# EAGLE library part PIN-HEADER-6PIN (library stutz-eagle)
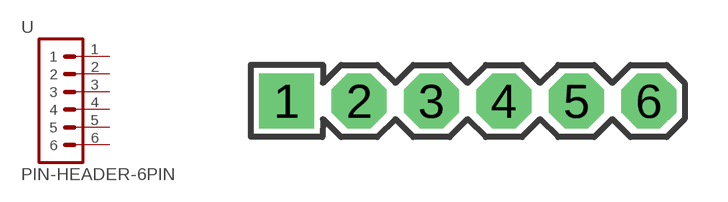
[diagram p5: symbol with the pads of PIN-HEADER-6PIN; footprint PIN-HEADER-6PIN]

Designator prefix -

## PIN-HEADER-6PIN  [PIN-HEADER-6PIN]
1  1  pas
2  2  pas
3  3  pas
4  4  pas
5  5  pas
6  6  pas

## Footprint PIN-HEADER-6PIN (pad centres in mm)
drill 1.016 pad 1.93 square: 1 -5.08,0
drill 1.016 pad 1.93 octagon: 2 -2.54,0; 3 0,0; 4 2.54,0; 5 5.08,0; 6 7.62,0